# EAGLE library part AU5790D,112 (library NXP_By_element14_Batch_1)
Single wire CAN transceiver
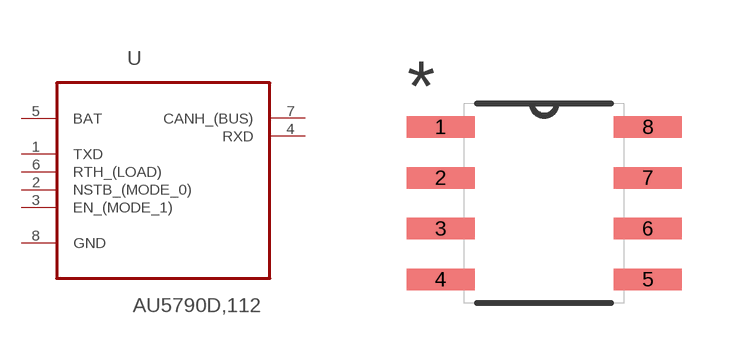
[diagram p232: symbol with the pads of SOIC127P600X175-8N; footprint SOIC127P600X175-8N]

Designator prefix U

## AU5790D,112 (MPN: AU5790D,112; OC_FARNELL: 1872171; OC_NEWARK: 99R2397; PACKAGE: SOIC-8; SUPPLIER: NXP)  [SOIC127P600X175-8N]
1  TXD  in
2  NSTB_(MODE_0)  in
3  EN_(MODE_1)  in
4  RXD  out
5  BAT  pwr
6  RTH_(LOAD)  in
7  CANH_(BUS)
8  GND  pas

## Footprint SOIC127P600X175-8N (pad centres in mm)
smd 1.702 x 0.533: 1 -2.591,1.905; 2 -2.591,0.635; 3 -2.591,-0.635; 4 -2.591,-1.905; 5 2.591,-1.905; 6 2.591,-0.635; 7 2.591,0.635; 8 2.591,1.905